# EAGLE library part AT45DB011D (library memory-atmel)
DataFlash RapidS Serial Interface, 66 MHZ
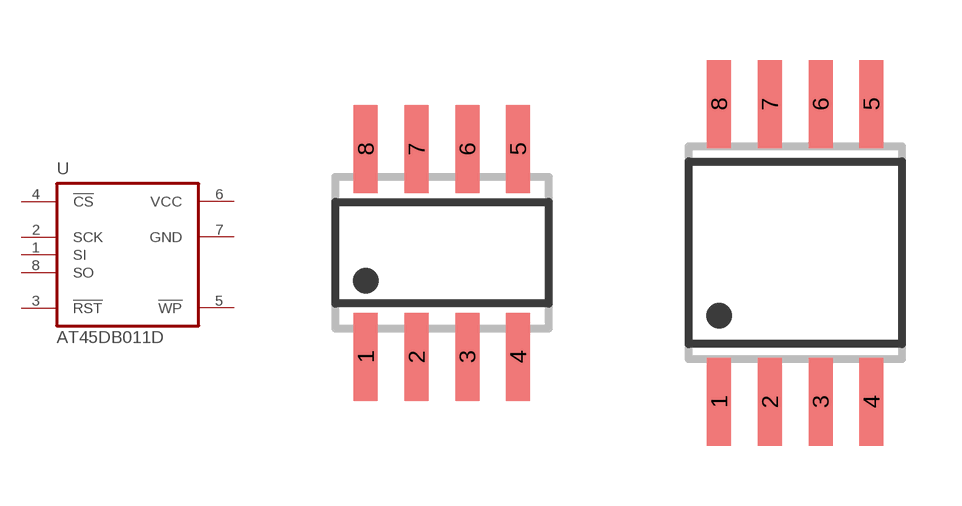
[diagram p9: symbol with the pads of SO08-8S1; footprints SO08-8S1, SO08-8S2]

Designator prefix U

## AT45DB011D-SS  [SO08-8S1]
1  SI
2  SCK
3  !RST!
4  !CS!
5  !WP!
6  VCC  pwr
7  GND  pwr
8  SO

## AT45DB011D-S  [SO08-8S2]
Pads as for SO08-8S1

## Footprint SO08-8S1 (pad centres in mm)
SMALL OUTLINE INTEGRATED CIRCUIT 8S1, body 3.9 mm/JEDEC MS-012AA
smd 0.6 x 2.2: 1 -1.905,-2.6; 2 -0.635,-2.6; 3 0.635,-2.6; 4 1.905,-2.6; 5 1.905,2.6; 6 0.635,2.6; 7 -0.635,2.6; 8 -1.905,2.6

## Footprint SO08-8S2 (pad centres in mm)
SMALL OUTLINE INTEGRATED CIRCUIT 8S2 Package (EIAJ), 5.4 mm body
smd 0.6 x 2.2: 1 -1.905,-3.725; 2 -0.635,-3.725; 3 0.635,-3.725; 4 1.905,-3.725; 5 1.905,3.725; 6 0.635,3.725; 7 -0.635,3.725; 8 -1.905,3.725